# EAGLE library part BQ24079 (library ubo_PQ60)
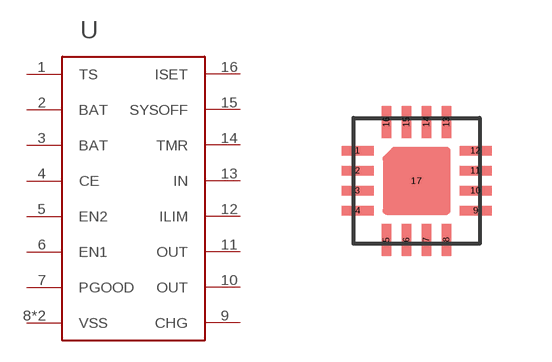
[diagram p29: symbol with the pads of PVQFN16-THERM; footprint PVQFN16-THERM]

Designator prefix -

## BQ24079  [PVQFN16-THERM]
1  TS
2  BAT
3  BAT
4  CE
5  EN2
6  EN1
7  PGOOD
8  VSS
9  CHG
10  OUT
11  OUT
12  ILIM
13  IN
14  TMR
15  SYSOFF
16  ISET
17  VSS

## Footprint PVQFN16-THERM (pad centres in mm)
smd 0.8 x 0.23: 1 -1.475,0.75; 2 -1.475,0.25; 3 -1.475,-0.25; 4 -1.475,-0.75; 9 1.475,-0.75; 10 1.475,-0.25; 11 1.475,0.25; 12 1.475,0.75
smd 0.23 x 0.8: 5 -0.75,-1.475; 6 -0.25,-1.475; 7 0.25,-1.475; 8 0.75,-1.475; 13 0.75,1.475; 14 0.25,1.475; 15 -0.25,1.475; 16 -0.75,1.475
smd 0.25 x 0.25: 17 0,0